# Altium schematic symbol library 10.Power_converters.SchLib: 11 symbols
Pins are listed as number, name and electrical type; pins without a type are passive.

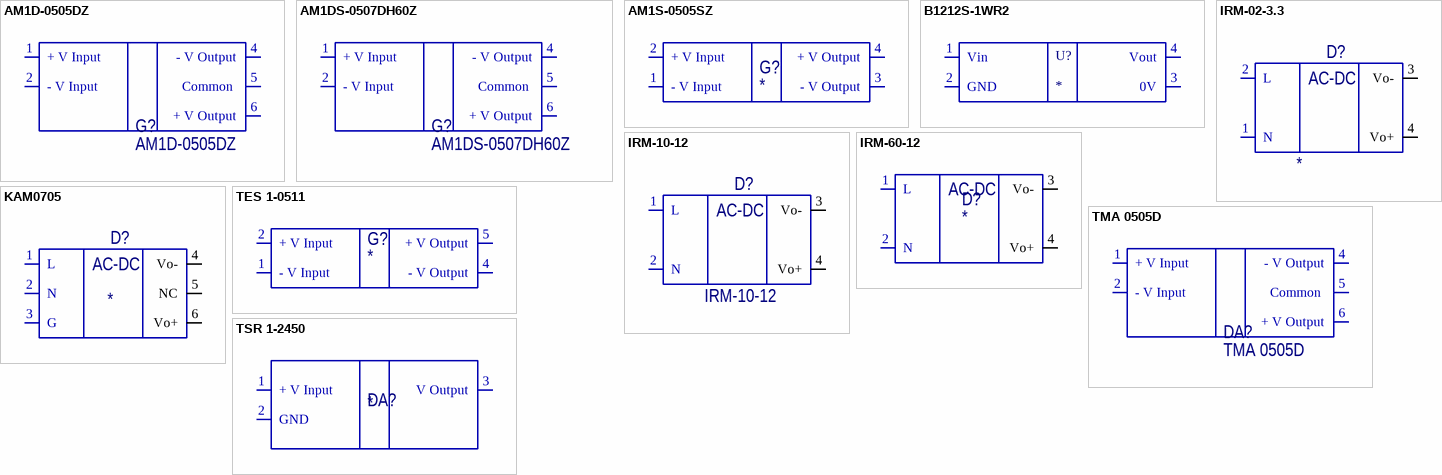
[diagram p0: symbols AM1D-0505DZ to TSR 1-2450]

## AM1D-0505DZ
designator G?
HelpURL: http://www.aimtec.com/site/Aimtec/files/Datasheet/HighResolution/AM1D-Z.pdf
footprint AM1D
pins: 1 + V Input, 2 - V Input , 4 - V Output, 5 Common , 6 + V Output

## AM1DS-0507DH60Z
designator G?
DC/DC преобразователь; HelpURL: http://www.aimtec.com/site/Aimtec/files/Datasheet/HighResolution/AM1D-Z.pdf
footprint AM1D
pins: 1 + V Input, 2 - V Input , 4 - V Output, 5 Common , 6 + V Output

## AM1S-0505SZ
designator G?
footprint AM1S
pins: 1 - V Input, 2 + V Input , 3 - V Output, 4 + V Output

## B1212S-1WR2
designator U?
DC/DC Изолированный 12В/12В; Manufacturer_Name: Mornsun Power; Manufacturer_Part_Number: B1212S-1WR2; Description: Module DC-DC 12VIN 1-OUT 12V 0.084A 1W 4-Pin Mini-SIP Module Tube; Datasheet Link: https://4donline.ihs.com/images/VipMasterIC/IC/MNSN/MNSN-S-A0011722949/MNSN-S-A0011723015-1.pdf?hkey=EF798316E3902B6ED9A73243A3159BB0; Height: 10.41mm
footprint B1212S1WR2
pins: 1 Vin, 2 GND, 3 0V, 4 Vout

## IRM-02-3.3
designator D?
АС-DC преобразователь
footprint IRM-02
pins: 1 N, 2 L, 3 Vo-, 4 Vo+
text: AC-DC

## IRM-10-12
designator D?
АС-DC преобразователь
pins: 1 L, 2 N, 3 Vo-, 4 Vo+
text: AC-DC

## IRM-60-12
designator D?
AC/DC преобразователь
footprint IRM-60-12
pins: 1 L, 2 N, 3 Vo-, 4 Vo+
text: AC-DC

## KAM0705
designator D?
АС-DC преобразователь
footprint KAM07
pins: 1 L, 2 N, 3 G, 4 Vo-, 5 NC, 6 Vo+
text: AC-DC

## TES 1-0511
designator G?
footprint TES_1
pins: 1 - V Input, 2 + V Input , 4 - V Output, 5 + V Output

## TMA 0505D
designator DA?
DC/DC преобразователь; HelpURL: http://www.aimtec.com/site/Aimtec/files/Datasheet/HighResolution/AM1D-Z.pdf
footprint SIP7
pins: 1 + V Input, 2 - V Input , 4 - V Output, 5 Common , 6 + V Output

## TSR 1-2450
designator DA?
DC/DC преобразователь, 5Вт, вход 6.5-36В, выход 5В/1А
footprint TSR-1
pins: 1 + V Input, 2 GND, 3 V Output